# EAGLE library part FEATHER32U4 (library Kb parts)
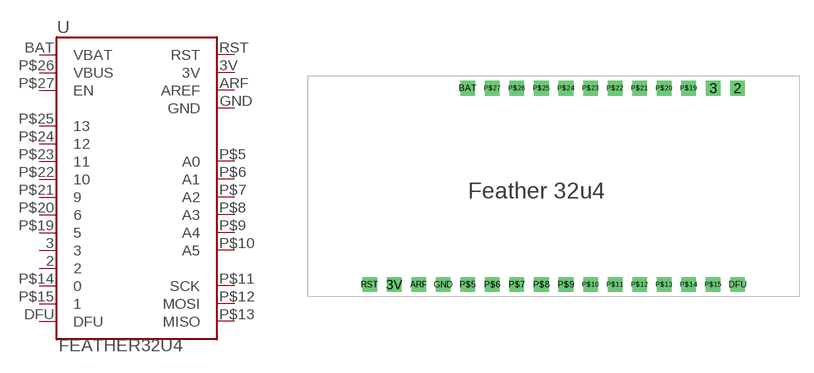
[diagram p0: symbol with the pads of ADAFRUITFEATHER32U4; footprint ADAFRUITFEATHER32U4]

Designator prefix U

## FEATHER32U4  [ADAFRUITFEATHER32U4]
2  2
3  3
3V  3V  pwr
ARF  AREF  pwr
BAT  VBAT  pwr
DFU  DFU
GND  GND  pwr
P$5  A0
P$6  A1
P$7  A2
P$8  A3
P$9  A4
P$10  A5
P$11  SCK
P$12  MOSI
P$13  MISO
P$14  0
P$15  1
P$19  5
P$20  6
P$21  9
P$22  10
P$23  11
P$24  12
P$25  13
P$26  VBUS  pwr
P$27  EN  pwr
RST  RST

## Footprint ADAFRUITFEATHER32U4 (pad centres in mm)
Footprint for all adafruit feather 32u4 boards
drill 1 square: 2 44.45,21.59; 3 41.91,21.59; 3V 8.89,1.27; ARF 11.43,1.27; BAT 16.51,21.59; DFU 44.45,1.27; GND 13.97,1.27; P$5 16.51,1.27; P$6 19.05,1.27; P$7 21.59,1.27; P$8 24.13,1.27; P$9 26.67,1.27; P$10 29.21,1.27; P$11 31.75,1.27; P$12 34.29,1.27; P$13 36.83,1.27; P$14 39.37,1.27; P$15 41.91,1.27; P$19 39.37,21.59; P$20 36.83,21.59; P$21 34.29,21.59; P$22 31.75,21.59; P$23 29.21,21.59; P$24 26.67,21.59; P$25 24.13,21.59; P$26 21.59,21.59; P$27 19.05,21.59; RST 6.35,1.27